# EAGLE library part MOUDLE-SEEEDUINO-XIAO (library Seeeduino XIAO)
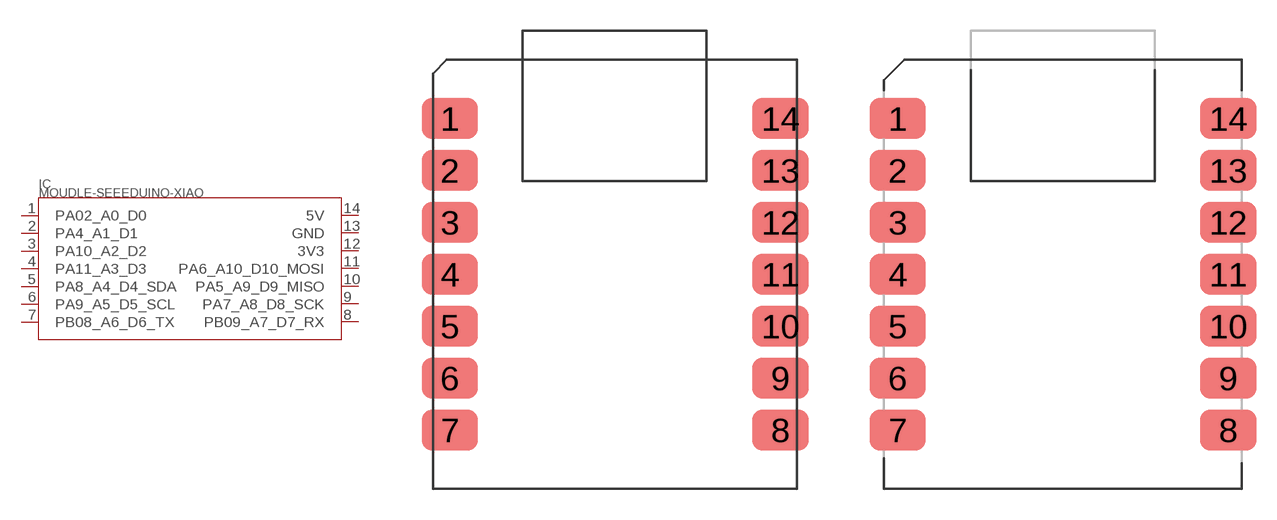
[diagram p0: symbol with the pads of MOUDLE14P-2.54-21X17.8MM; footprints MOUDLE14P-2.54-21X17.8MM, MOUDLE14P-2.54-21X17.8MM-MODIFIED]

Designator prefix IC

## MOUDLE-SEEEDUINO-XIAO-ORIGINAL  [MOUDLE14P-2.54-21X17.8MM]
1  PA02_A0_D0
2  PA4_A1_D1
3  PA10_A2_D2
4  PA11_A3_D3
5  PA8_A4_D4_SDA
6  PA9_A5_D5_SCL
7  PB08_A6_D6_TX
8  PB09_A7_D7_RX
9  PA7_A8_D8_SCK
10  PA5_A9_D9_MISO
11  PA6_A10_D10_MOSI
12  3V3
13  GND
14  5V

## MOUDLE-SEEEDUINO-XIAO-MOUNTED  [MOUDLE14P-2.54-21X17.8MM-MODIFIED]
Pads as for MOUDLE14P-2.54-21X17.8MM

## MOUDLE-SEEEDUINO-XIAO-HOLE  [MOUDLE14P-2.54-21X17.8MM-HOLE]
Pads as for MOUDLE14P-2.54-21X17.8MM

## MOUDLE-SEEEDUINO-XIAO-BLE-SMD  [XIAO-BLE]
Pads as for MOUDLE14P-2.54-21X17.8MM

## Footprint MOUDLE14P-2.54-21X17.8MM (pad centres in mm)
smd 2.75 x 2: 1 0.835,18.12; 2 0.835,15.58; 3 0.835,13.04; 4 0.835,10.5; 5 0.835,7.96; 6 0.835,5.42; 7 0.835,2.88; 8 17,2.88; 9 17,5.42; 10 17,7.96; 11 17,10.5; 12 17,13.04; 13 17,15.58; 14 17,18.12

## Footprint MOUDLE14P-2.54-21X17.8MM-MODIFIED (pad centres in mm)
Seeeduino XIAO with Origin fitting USB connector
smd 2.75 x 2: 1 -8.065,-2.88; 2 -8.065,-5.42; 3 -8.065,-7.96; 4 -8.065,-10.5; 5 -8.065,-13.04; 6 -8.065,-15.58; 7 -8.065,-18.12; 8 8.1,-18.12; 9 8.1,-15.58; 10 8.1,-13.04; 11 8.1,-10.5; 12 8.1,-7.96; 13 8.1,-5.42; 14 8.1,-2.88

## Footprint MOUDLE14P-2.54-21X17.8MM-HOLE (pad centres in mm)
Seeeduino XIAO with Origin fitting USB connector. DIP mount type
drill 1 pad 2: 1 -7.62,-2.88; 2 -7.62,-5.42; 3 -7.62,-7.96; 4 -7.62,-10.5; 5 -7.62,-13.04; 6 -7.62,-15.58; 7 -7.62,-18.12; 8 7.62,-18.12; 9 7.62,-15.58; 10 7.62,-13.04; 11 7.62,-10.5; 12 7.62,-7.96; 13 7.62,-5.42; 14 7.62,-2.88

## Footprint XIAO-BLE (pad centres in mm)
Seeed Studio XIAO nRF52840 https://wiki.seeedstudio.com/XIAO_BLE/
smd 2.75 x 2: 1 -8.065,-2.88; 2 -8.065,-5.42; 3 -8.065,-7.96; 4 -8.065,-10.5; 5 -8.065,-13.04; 6 -8.065,-15.58; 7 -8.065,-18.12; 8 8.1,-18.12; 9 8.1,-15.58; 10 8.1,-13.04; 11 8.1,-10.5; 12 8.1,-7.96; 13 8.1,-5.42; 14 8.1,-2.88